# Altium footprint library CONN_HDR_2.54MM_BOX_IDC.PcbLib: 37 footprints (part 1 of 3)
Each footprint in its own frame and in the unit in brackets; x right, y up, seen from the top. Pads: shape width x height; smd on the part's side, far side on the other; paste and mask are expansions set on the pad; w line width, h text height; cw(c..) or ccw(c..) is an arc to the next point about the centre after c.
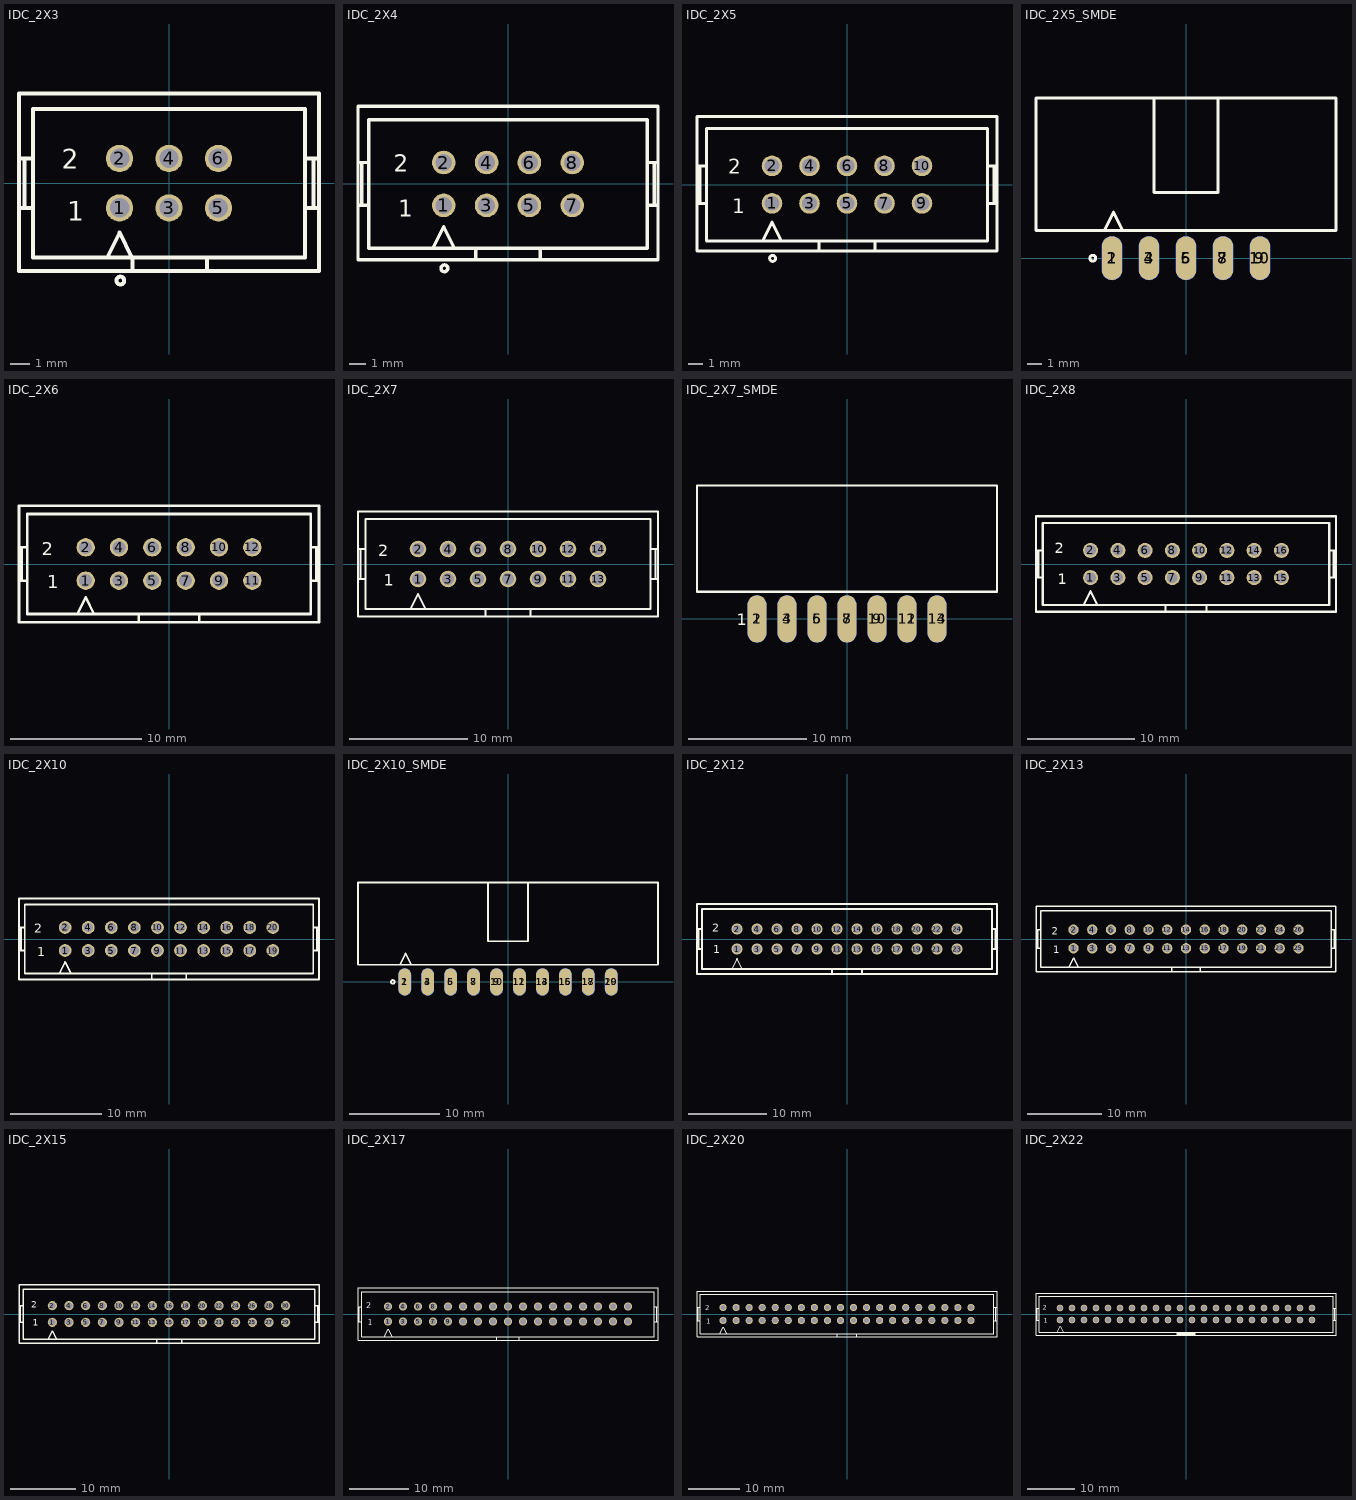
[diagram p0: the footprints below, top view; thin cyan lines are the x and y axes]

## IDC_2X3 [mm]
pads (6):
  round 1.4 / inner round 1.4 / far side oval 1.4x2.2 hole 1 mask+0.1: 1(-2.54,-1.27) 2(-2.54,1.27) 3(0,-1.27) 4(0,1.27) 5(2.54,-1.27) 6(2.54,1.27)
Top Overlay:
  circle w0.2: c-2.5,-5 r0.2
  lines w0.2: -7.62,-1.27 -6.985,-1.27 ; -7.62,1.27 -6.985,1.27 ; -7.408,-1.27 -7.408,1.27 ; -3.175,-3.81 -2.54,-2.54 -1.905,-3.81 ; -1.865,-4.445 -1.865,-3.81 ; 1.945,-4.445 1.945,-3.81 ; 6.985,-1.27 7.62,-1.27 ; 6.985,1.27 7.62,1.27 ; 7.408,-1.27 7.408,1.27 ; -7.7,-4.5 7.7,-4.5 7.7,4.6 -7.7,4.6 -7.7,-4.5 ; -6.985,-3.81 6.985,-3.81 6.985,3.81 -6.985,3.81 -6.985,-3.81
  text "2" at -5.512,0.737 h1
  text "1" at -5.232,-1.93 h1
3D body "61200621621.stp": height 9.13, standoff -2.98, extent -7.64,-4.425 7.64,4.75

## IDC_2X4 [mm] "IDC, HEADER BOX 2X4, 8p, 2.54mm pitch"
pads (8):
  round 1.4 / inner round 1.4 / far side oval 1.4x2.2 hole 1 mask+0.1: 1(-3.81,-1.27) 2(-3.81,1.27) 3(-1.27,-1.27) 4(-1.27,1.27) 5(1.27,-1.27) 6(1.27,1.27) 7(3.81,-1.27) 8(3.81,1.27)
Top Overlay:
  circle w0.2: c-3.77,-5 r0.2
  lines w0.2: -8.89,-1.27 -8.255,-1.27 ; -8.89,1.27 -8.255,1.27 ; -8.678,-1.27 -8.678,1.27 ; -4.445,-3.81 -3.81,-2.54 -3.175,-3.81 ; -1.905,-4.445 -1.905,-3.81 ; 1.905,-4.445 1.905,-3.81 ; 8.255,-1.27 8.89,-1.27 ; 8.255,1.27 8.89,1.27 ; 8.678,-1.27 8.678,1.27 ; -1.905,-3.81 1.905,-3.81 ; -1.905,-3.81 -8.255,-3.81 -8.255,3.81 8.255,3.81 8.255,-3.81 1.905,-3.81 ; -8.89,-4.5 8.89,-4.5 8.89,4.6 -8.89,4.6 -8.89,-4.5
  text "2" at -6.782,0.737 h1
  text "1" at -6.502,-1.93 h1
3D body "61200821621.stp": height 9.13, standoff -2.98, extent -8.91,-4.425 8.91,4.75

## IDC_2X5 [mm] "IDC, HEADER BOX 2X5, 10p, 2.54mm pitch"
pads (10):
  round 1.4 / inner round 1.4 / far side oval 1.4x2.2 hole 1 mask+0.1: 1(-5.08,-1.27) 2(-5.08,1.27) 3(-2.54,-1.27) 4(-2.54,1.27) 5(0,-1.27) 6(0,1.27) 7(2.54,-1.27) 8(2.54,1.27) 9(5.08,-1.27) 10(5.08,1.27)
Top Overlay:
  circle w0.2: c-5.04,-5 r0.2
  lines w0.2: -10.16,-1.27 -9.525,-1.27 ; -10.16,1.27 -9.525,1.27 ; -9.948,-1.27 -9.948,1.27 ; -5.715,-3.81 -5.08,-2.54 -4.445,-3.81 ; -1.905,-4.445 -1.905,-3.81 ; 1.905,-4.445 1.905,-3.81 ; 9.525,-1.27 10.16,-1.27 ; 9.525,1.27 10.16,1.27 ; 9.948,-1.27 9.948,1.27 ; -1.905,-3.81 -9.525,-3.81 -9.525,3.81 9.525,3.81 9.525,-3.81 1.905,-3.81 ; -1.905,-3.81 1.905,-3.81 ; -10.16,-4.5 -10.16,4.6 10.16,4.6 10.16,-4.5 -10.16,-4.5
  text "1" at -7.772,-1.93 h1
  text "2" at -8.052,0.737 h1
3D body "61201021621.stp": height 9.13, standoff -2.98, extent -10.18,-4.425 10.18,4.75

## IDC_2X5_SMDE [mm] "IDC, HEADER BOX 2X5, 10p, 2.54mm pitch"
pads (10):
  oval 1.4x3 smd mask+0.1: 1(-5.08,0) 3(-2.54,0) 5(0,0) 7(2.54,0) 9(5.08,0)
  oval 1.4x3 smd far side mask+0.1: 2(-5.08,0) 4(-2.54,0) 6(0,0) 8(2.54,0) 10(5.08,0)
Top Overlay:
  circle w0.2: c-6.4,0 r0.2
  lines w0.2: -5.615,1.89 -4.98,3.16 -4.345,1.89 ; -2.2,11 -2.2,4.5 2.2,4.5 2.2,11 ; -10.3,1.9 10.3,1.9 10.3,11 -10.3,11 -10.3,1.9
3D body "61201021621.stp": height 3.62, standoff -5.55, extent -10.18,-1.2 10.18,10.9

## IDC_2X6 [mm]
pads (12):
  round 1.4 / inner round 1.4 / far side oval 1.4x2.2 hole 1 mask+0.1: 1(-6.35,-1.27) 2(-6.35,1.27) 3(-3.81,-1.27) 4(-3.81,1.27) 5(-1.27,-1.27) 6(-1.27,1.27) 7(1.27,-1.27) 8(1.27,1.27) 9(3.81,-1.27) 10(3.81,1.27) 11(6.35,-1.27) 12(6.35,1.27)
Top Overlay:
  lines w0.2: -11.43,-1.27 -10.795,-1.27 ; -11.43,1.27 -10.795,1.27 ; -11.218,-1.27 -11.218,1.27 ; -6.985,-3.81 -6.35,-2.54 -5.715,-3.81 ; -2.305,-4.445 -2.305,-3.81 ; 2.305,-4.445 2.305,-3.81 ; 10.795,-1.27 11.43,-1.27 ; 10.795,1.27 11.43,1.27 ; 11.218,-1.27 11.218,1.27 ; -11.43,-4.445 11.43,-4.445 11.43,4.445 -11.43,4.445 -11.43,-4.445 ; -10.795,-3.81 -1.905,-3.81 1.905,-3.81 10.795,-3.81 10.795,3.81 -10.795,3.81 -10.795,-3.81
  text "2" at -9.703,0.66 h1
  text "1" at -9.271,-1.854 h1
3D body "User Library-IDC Socket Male 12pin Straight THT Goldplated 2_54mm.step": height 9.43, standoff -2.97, extent -11.44,-4.425 11.4,4.425

## IDC_2X7 [mm] "IDC, HEADER BOX 2X7, 14p, 2.54mm pitch"
pads (14):
  round 1.4 / inner round 1.4 / far side oval 1.4x2.2 hole 1 mask+0.1: 1(-7.62,-1.27) 2(-7.62,1.27) 3(-5.08,-1.27) 4(-5.08,1.27) 5(-2.54,-1.27) 6(-2.54,1.27) 7(0,-1.27) 8(0,1.27) 9(2.54,-1.27) 10(2.54,1.27) 11(5.08,-1.27) 12(5.08,1.27) 13(7.62,-1.27) 14(7.62,1.27)
Top Overlay:
  lines w0.2: -12.7,-1.27 -12.065,-1.27 ; -12.7,1.27 -12.065,1.27 ; -12.488,-1.27 -12.488,1.27 ; -8.255,-3.81 -7.62,-2.54 -6.985,-3.81 ; -1.905,-4.445 -1.905,-3.81 ; 1.905,-4.445 1.905,-3.81 ; 12.065,-1.27 12.7,-1.27 ; 12.065,1.27 12.7,1.27 ; 12.488,-1.27 12.488,1.27 ; -1.905,-3.81 1.905,-3.81 ; -1.905,-3.81 -12.065,-3.81 -12.065,3.81 12.065,3.81 12.065,-3.81 1.905,-3.81 ; -12.7,-4.445 12.7,-4.445 12.7,4.445 -12.7,4.445 -12.7,-4.445
  text "2" at -10.973,0.66 h1
  text "1" at -10.541,-1.854 h1
3D body "TE_1-1634688-4_IDC14_V.STEP": height 9.1, standoff -3.2, extent -12.73,-4.55 12.7,4.55

## IDC_2X7_SMDE [mm] "IDC, HEADER BOX 2X7, 14p, 2.54mm pitch, EDGE of Board"
pads (14):
  oval 1.6x4 smd mask+0.1: 1(-7.62,0) 3(-5.08,0) 5(-2.54,0) 7(0,0) 9(2.54,0) 11(5.08,0) 13(7.62,0)
  oval 1.6x4 smd far side mask+0.1: 2(-7.62,0) 4(-5.08,0) 6(-2.54,0) 8(0,0) 10(2.54,0) 12(5.08,0) 14(7.62,0)
Top Overlay:
  lines w0.2: -12.7,2.3 -12.7,11.3 12.7,11.3 12.7,2.3 -12.7,2.3
  text "1" at -9.341,-0.554 h1
Bottom Overlay:
  text "2" at -8.8,-0.5 h1
3D body "TE_1-1634688-4_IDC14_V.STEP": height 4.23, standoff -4.87, extent -12.715,-1.1 12.715,11.2

## IDC_2X8 [mm]
pads (16):
  round 1.4 / inner round 1.4 / far side oval 1.4x2.2 hole 1 mask+0.1: 1(-8.89,-1.27) 2(-8.89,1.27) 3(-6.35,-1.27) 4(-6.35,1.27) 5(-3.81,-1.27) 6(-3.81,1.27) 7(-1.27,-1.27) 8(-1.27,1.27) 9(1.27,-1.27) 10(1.27,1.27) 11(3.81,-1.27) 12(3.81,1.27) 13(6.35,-1.27) 14(6.35,1.27) 15(8.89,-1.27) 16(8.89,1.27)
Top Overlay:
  lines w0.2: -13.97,-1.27 -13.335,-1.27 ; -13.97,1.27 -13.335,1.27 ; -13.758,-1.27 -13.758,1.27 ; -9.525,-3.81 -8.89,-2.54 -8.255,-3.81 ; -1.905,-4.445 -1.905,-3.81 ; 1.905,-4.445 1.905,-3.81 ; 13.335,-1.27 13.97,-1.27 ; 13.335,1.27 13.97,1.27 ; 13.758,-1.27 13.758,-1.058 13.758,1.27 ; -1.905,-3.81 -13.335,-3.81 -13.335,3.81 13.335,3.81 13.335,-3.81 1.905,-3.81 ; -1.905,-3.81 1.905,-3.81 ; -13.97,-4.445 -13.97,4.445 13.97,4.445 13.97,-4.445 -13.97,-4.445
  text "2" at -12.243,0.991 h1
  text "1" at -11.938,-1.88 h1
3D body "61201621621.stp": height 9.13, standoff -2.98, extent -13.99,-4.425 13.99,4.75

## IDC_2X10 [mm]
pads (20):
  round 1.4 / inner round 1.4 / far side oval 1.4x2.2 hole 1 mask+0.1: 1(-11.43,-1.27) 2(-11.43,1.27) 3(-8.89,-1.27) 4(-8.89,1.27) 5(-6.35,-1.27) 6(-6.35,1.27) 7(-3.81,-1.27) 8(-3.81,1.27) 9(-1.27,-1.27) 10(-1.27,1.27) 11(1.27,-1.27) 12(1.27,1.27) 13(3.81,-1.27) 14(3.81,1.27) 15(6.35,-1.27) 16(6.35,1.27) 17(8.89,-1.27) 18(8.89,1.27) 19(11.43,-1.27) 20(11.43,1.27)
Top Overlay:
  lines w0.2: -16.51,-1.27 -15.875,-1.27 ; -16.51,1.27 -15.875,1.27 ; -16.298,-1.27 -16.298,1.27 ; -12.065,-3.81 -11.43,-2.54 -10.795,-3.81 ; -1.905,-4.445 -1.905,-3.81 ; 1.905,-4.445 1.905,-3.81 ; 15.875,-1.27 16.51,-1.27 ; 15.875,1.27 16.51,1.27 ; 16.298,-1.27 16.298,1.27 ; -1.905,-3.81 1.905,-3.81 ; -1.905,-3.81 -15.875,-3.81 -15.875,3.81 15.875,3.81 15.875,-3.81 1.905,-3.81 ; -16.51,-4.445 16.51,-4.445 16.51,4.445 -16.51,4.445 -16.51,-4.445
  text "1" at -14.529,-1.905 h1
  text "2" at -14.859,0.686 h1
3D body "61202021621.stp": height 9.13, standoff -2.98, extent -16.53,-4.425 16.53,4.75

## IDC_2X10_SMDE [mm]
pads (20):
  oval 1.4x3 smd mask+0.1: 1(-11.43,0) 3(-8.89,0) 5(-6.35,0) 7(-3.81,0) 9(-1.27,0) 11(1.27,0) 13(3.81,0) 15(6.35,0) 17(8.89,0) 19(11.43,0)
  oval 1.4x3 smd far side mask+0.1: 2(-11.43,0) 4(-8.89,0) 6(-6.35,0) 8(-3.81,0) 10(-1.27,0) 12(1.27,0) 14(3.81,0) 16(6.35,0) 18(8.89,0) 20(11.43,0)
Top Overlay:
  circle w0.2: c-12.75,0 r0.2
  lines w0.2: -11.965,1.89 -11.33,3.16 -10.695,1.89 ; -2.2,11 -2.2,4.5 2.2,4.5 2.2,11 ; -16.6,1.9 16.6,1.9 16.6,11 -16.6,11 -16.6,1.9
3D body "61202021621.stp": height 3.62, standoff -5.55, extent -16.53,-1.175 16.53,10.925

## IDC_2X12 [mm]
pads (24):
  round 1.4 / inner round 1.4 / far side oval 1.4x2.2 hole 1 mask+0.1: 1(-13.97,-1.27) 2(-13.97,1.27) 3(-11.43,-1.27) 4(-11.43,1.27) 5(-8.89,-1.27) 6(-8.89,1.27) 7(-6.35,-1.27) 8(-6.35,1.27) 9(-3.81,-1.27) 10(-3.81,1.27) 11(-1.27,-1.27) 12(-1.27,1.27) 13(1.27,-1.27) 14(1.27,1.27) 15(3.81,-1.27) 16(3.81,1.27) 17(6.35,-1.27) 18(6.35,1.27) 19(8.89,-1.27) 20(8.89,1.27) 21(11.43,-1.27) 22(11.43,1.27) 23(13.97,-1.27) 24(13.97,1.27)
Top Overlay:
  lines w0.2: -19.05,-1.27 -18.415,-1.27 ; -19.05,1.27 -18.415,1.27 ; -18.838,-1.27 -18.838,1.27 ; -14.605,-3.81 -13.97,-2.54 -13.335,-3.81 ; -1.905,-4.445 -1.905,-3.81 ; 1.905,-4.445 1.905,-3.81 ; 18.415,-1.27 19.05,-1.27 ; 18.415,1.27 19.05,1.27 ; 18.838,-1.27 18.838,1.27 ; -1.905,-3.81 1.905,-3.81 ; -1.905,-3.81 -18.415,-3.81 -18.415,3.81 18.415,3.81 18.415,-3.81 1.905,-3.81 ; -19.05,-4.445 19.05,-4.445 19.05,4.445 -19.05,4.445 -19.05,-4.445
  text "1" at -16.967,-1.778 h1
  text "2" at -17.12,0.914 h1
3D body "61202421621.stp": height 9.13, standoff -2.98, extent -19.07,-4.425 19.07,4.75

## IDC_2X13 [mm]
pads (26):
  round 1.4 / inner round 1.4 / far side oval 1.4x2.2 hole 1 mask+0.1: 1(-15.24,-1.27) 2(-15.24,1.27) 3(-12.7,-1.27) 4(-12.7,1.27) 5(-10.16,-1.27) 6(-10.16,1.27) 7(-7.62,-1.27) 8(-7.62,1.27) 9(-5.08,-1.27) 10(-5.08,1.27) 11(-2.54,-1.27) 12(-2.54,1.27) 13(0,-1.27) 14(0,1.27) 15(2.54,-1.27) 16(2.54,1.27) 17(5.08,-1.27) 18(5.08,1.27) 19(7.62,-1.27) 20(7.62,1.27) 21(10.16,-1.27) 22(10.16,1.27) 23(12.7,-1.27) 24(12.7,1.27) 25(15.24,-1.27) 26(15.24,1.27)
Top Overlay:
  lines w0.2: -20.32,-1.27 -19.685,-1.27 ; -20.32,1.27 -19.685,1.27 ; -20.108,-1.27 -20.108,1.27 ; -15.875,-3.81 -15.24,-2.54 -14.605,-3.81 ; -1.905,-4.445 -1.905,-3.81 ; 1.905,-4.445 1.905,-3.81 ; 19.685,-1.27 20.32,-1.27 ; 19.685,1.27 20.32,1.27 ; 20.108,-1.27 20.108,1.27 ; -1.905,-3.81 -19.685,-3.81 -19.685,3.81 19.685,3.81 19.685,-3.81 1.905,-3.81 ; -1.905,-3.81 1.905,-3.81 ; -20.32,-4.445 -20.32,4.445 20.32,4.445 20.32,-4.445 -20.32,-4.445
  text "1" at -17.958,-1.93 h1
  text "2" at -18.212,0.61 h1
3D body "61202621621.stp": height 9.13, standoff -2.98, extent -20.34,-4.425 20.34,4.75

## IDC_2X15 [mm]
pads (30):
  round 1.4 / inner round 1.4 / far side oval 1.4x2.2 hole 1 mask+0.1: 1(-17.78,-1.27) 2(-17.78,1.27) 3(-15.24,-1.27) 4(-15.24,1.27) 5(-12.7,-1.27) 6(-12.7,1.27) 7(-10.16,-1.27) 8(-10.16,1.27) 9(-7.62,-1.27) 10(-7.62,1.27) 11(-5.08,-1.27) 12(-5.08,1.27) 13(-2.54,-1.27) 14(-2.54,1.27) 15(0,-1.27) 16(0,1.27) 17(2.54,-1.27) 18(2.54,1.27) 19(5.08,-1.27) 20(5.08,1.27) 21(7.62,-1.27) 22(7.62,1.27) 23(10.16,-1.27) 24(10.16,1.27) 25(12.7,-1.27) 26(12.7,1.27) 27(15.24,-1.27) 28(15.24,1.27) 29(17.78,-1.27) 30(17.78,1.27)
Top Overlay:
  lines w0.2: -22.86,-1.27 -22.225,-1.27 ; -22.86,1.27 -22.225,1.27 ; -22.648,-1.27 -22.648,1.27 ; -18.415,-3.81 -17.78,-2.54 -17.145,-3.81 ; -1.905,-4.445 -1.905,-3.81 ; 1.905,-4.445 1.905,-3.81 ; 22.225,-1.27 22.86,-1.27 ; 22.225,1.27 22.86,1.27 ; 22.648,-1.27 22.648,1.27 ; -1.905,-3.81 -22.225,-3.81 -22.225,3.81 22.225,3.81 22.225,-3.81 1.905,-3.81 ; -1.905,-3.81 1.905,-3.81 ; -22.86,-4.445 -22.86,4.445 22.86,4.445 22.86,-4.445 -22.86,-4.445
  text "1" at -20.752,-1.753 h1
  text "2" at -21.031,0.94 h1
3D body "User Library-IDC Socket Male 30pin Straight THT Goldplated 2_54mm.step": height 9.33, standoff -3.07, extent -22.8,-4.425 22.9,4.425

## IDC_2X17 [mm]
pads (34):
  round 1.4 / inner round 1.4 / far side oval 1.4x2.2 hole 1 mask+0.1: 1(-20.32,-1.27) 2(-20.32,1.27) 3(-17.78,-1.27) 4(-17.78,1.27) 5(-15.24,-1.27) 6(-15.24,1.27) 7(-12.7,-1.27) 8(-12.7,1.27) 9(-10.16,-1.27) 10(-10.16,1.27) 11(-7.62,-1.27) 12(-7.62,1.27) 13(-5.08,-1.27) 14(-5.08,1.27) 15(-2.54,-1.27) 16(-2.54,1.27) 17(0,-1.27) 18(0,1.27) 19(2.54,-1.27) 20(2.54,1.27) 21(5.08,-1.27) 22(5.08,1.27) 23(7.62,-1.27) 24(7.62,1.27) 25(10.16,-1.27) 26(10.16,1.27) 27(12.7,-1.27) 28(12.7,1.27) 29(15.24,-1.27) 30(15.24,1.27) 31(17.78,-1.27) 32(17.78,1.27) 33(20.32,-1.27) 34(20.32,1.27)
Top Overlay:
  lines w0.2: -25.4,-1.27 -24.765,-1.27 ; -25.4,1.27 -24.765,1.27 ; -25.188,-1.27 -25.188,1.27 ; -20.955,-3.81 -20.32,-2.54 -19.685,-3.81 ; -1.905,-4.445 -1.905,-3.81 ; 1.905,-4.445 1.905,-3.81 ; 24.765,-1.27 25.4,-1.27 ; 24.765,1.27 25.4,1.27 ; 25.188,-1.27 25.188,1.27 ; -1.905,-3.81 -24.765,-3.81 -24.765,3.81 24.765,3.81 24.765,-3.81 1.905,-3.81 ; -1.905,-3.81 1.905,-3.81 ; -25.4,-4.445 -25.4,4.445 25.4,4.445 25.4,-4.445 -25.4,-4.445
  text "2" at -24.003,0.94 h1
  text "1" at -23.724,-1.88 h1
3D body "61203421621.stp": height 9.13, standoff -2.98, extent -25.42,-4.425 25.42,4.75

## IDC_2X20 [mm]
pads (40):
  round 1.4 / inner round 1.4 / far side oval 1.4x2.2 hole 1 mask+0.1: 1(-24.13,-1.27) 2(-24.13,1.27) 3(-21.59,-1.27) 4(-21.59,1.27) 5(-19.05,-1.27) 6(-19.05,1.27) 7(-16.51,-1.27) 8(-16.51,1.27) 9(-13.97,-1.27) 10(-13.97,1.27) 11(-11.43,-1.27) 12(-11.43,1.27) 13(-8.89,-1.27) 14(-8.89,1.27) 15(-6.35,-1.27) 16(-6.35,1.27) 17(-3.81,-1.27) 18(-3.81,1.27) 19(-1.27,-1.27) 20(-1.27,1.27) 21(1.27,-1.27) 22(1.27,1.27) 23(3.81,-1.27) 24(3.81,1.27) 25(6.35,-1.27) 26(6.35,1.27) 27(8.89,-1.27) 28(8.89,1.27) 29(11.43,-1.27) 30(11.43,1.27) 31(13.97,-1.27) 32(13.97,1.27) 33(16.51,-1.27) 34(16.51,1.27) 35(19.05,-1.27) 36(19.05,1.27) 37(21.59,-1.27) 38(21.59,1.27) 39(24.13,-1.27) 40(24.13,1.27)
Top Overlay:
  lines w0.2: -29.21,-1.27 -28.575,-1.27 ; -29.21,1.27 -28.575,1.27 ; -28.998,-1.27 -28.998,1.27 ; -24.765,-3.81 -24.13,-2.54 -23.495,-3.81 ; -1.905,-4.445 -1.905,-3.81 ; 1.905,-4.445 1.905,-3.81 ; 28.575,-1.27 29.21,-1.27 ; 28.575,1.27 29.21,1.27 ; 28.998,-1.27 28.998,1.27 ; -1.905,-3.81 1.905,-3.81 ; -1.905,-3.81 -28.575,-3.81 -28.575,3.81 28.575,3.81 28.575,-3.81 1.905,-3.81 ; -29.21,-4.445 29.21,-4.445 29.21,4.445 -29.21,4.445 -29.21,-4.445
  text "2" at -27.61,0.737 h1
  text "1" at -27.381,-1.905 h1
3D body "61204021621.stp": height 9.13, standoff -2.98, extent -29.23,-4.425 29.23,4.75

## IDC_2X22 [mm]
pads (44):
  round 1.4 / inner round 1.4 / far side oval 1.4x2.2 hole 1 mask+0.1: 1(-26.67,-1.27) 2(-26.67,1.27) 3(-24.13,-1.27) 4(-24.13,1.27) 5(-21.59,-1.27) 6(-21.59,1.27) 7(-19.05,-1.27) 8(-19.05,1.27) 9(-16.51,-1.27) 10(-16.51,1.27) 11(-13.97,-1.27) 12(-13.97,1.27) 13(-11.43,-1.27) 14(-11.43,1.27) 15(-8.89,-1.27) 16(-8.89,1.27) 17(-6.35,-1.27) 18(-6.35,1.27) 19(-3.81,-1.27) 20(-3.81,1.27) 21(-1.27,-1.27) 22(-1.27,1.27) 23(1.27,-1.27) 24(1.27,1.27) 25(3.81,-1.27) 26(3.81,1.27) 27(6.35,-1.27) 28(6.35,1.27) 29(8.89,-1.27) 30(8.89,1.27) 31(11.43,-1.27) 32(11.43,1.27) 33(13.97,-1.27) 34(13.97,1.27) 35(16.51,-1.27) 36(16.51,1.27) 37(19.05,-1.27) 38(19.05,1.27) 39(21.59,-1.27) 40(21.59,1.27) 41(24.13,-1.27) 42(24.13,1.27) 43(26.67,-1.27) 44(26.67,1.27)
Top Overlay:
  rectangle: -1.905,-4.445 1.905,-3.81
  lines w0.2: -31.75,-1.27 -31.115,-1.27 ; -31.75,1.27 -31.115,1.27 ; -31.538,-1.27 -31.538,1.27 ; -27.305,-3.81 -26.67,-2.54 -26.035,-3.81 ; -1.905,-4.445 -1.905,-3.81 ; 1.905,-4.445 1.905,-3.81 ; 31.115,-1.27 31.75,-1.27 ; 31.115,1.27 31.75,1.27 ; 31.538,-1.27 31.538,1.27 ; -31.75,-4.445 31.75,-4.445 31.75,4.445 -31.75,4.445 -31.75,-4.445 ; -31.115,-3.81 31.115,-3.81 31.115,3.81 -31.115,3.81 -31.115,-3.81
  text "2" at -30.302,0.864 h1
  text "1" at -30.099,-1.803 h1
3D body "User Library-IDC Socket Male 44pin Straight THT Goldplated 2_54mm.step": height 9.33, standoff -3.07, extent -31.78,-4.425 31.7,4.425